# EAGLE library part SD_CARD_POLLIN (library 000_eigene_Bauteile)
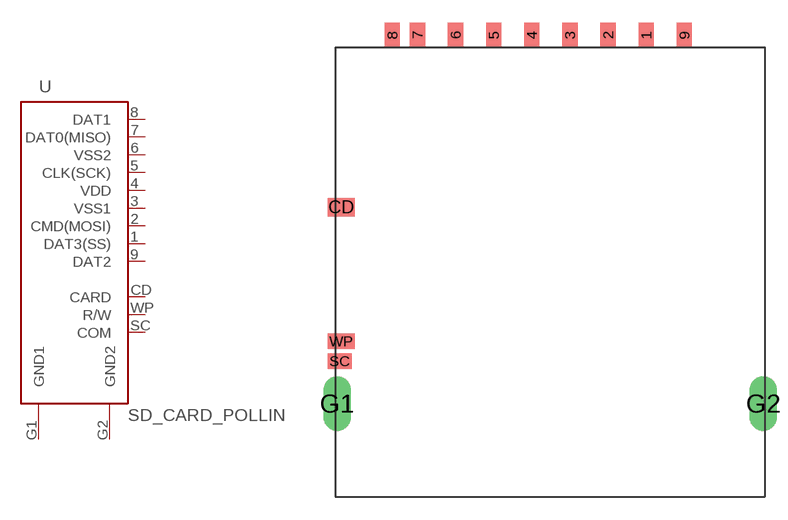
[diagram p0: symbol with the pads of SD_SLOT_POLLIN; footprint SD_SLOT_POLLIN]

Designator prefix -

## SD_CARD_POLLIN  [SD_SLOT_POLLIN]
1  DAT3(SS)
2  CMD(MOSI)
3  VSS1
4  VDD
5  CLK(SCK)
6  VSS2
7  DAT0(MISO)
8  DAT1
9  DAT2
CD  CARD
G1  GND1
G2  GND2
SC  COM
WP  R/W

## Footprint SD_SLOT_POLLIN (pad centres in mm)
smd 1 x 1.6: 1 -2.5,0; 2 -5,0; 3 -7.5,0; 4 -10,0; 5 -12.5,0; 6 -15,0; 7 -17.5,0; 8 -19.15,0; 9 0,0
smd 1.75 x 1.2: CD -22.5,-11.3
drill 1.2 long: G1 -22.775,-24.2; G2 5.175,-24.2
smd 1.55 x 1: SC -22.6,-21.4
smd 1.75 x 1: WP -22.5,-20.1